# EAGLE library part BGM250 (library Wisp5_Harvester_Motor-driver_V2)
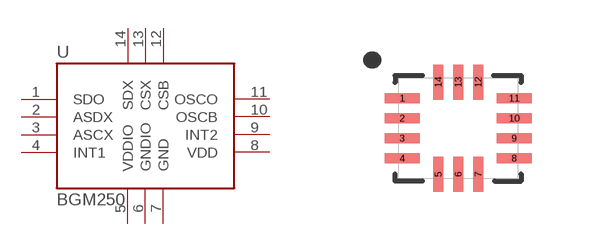
[diagram p2: symbol with the pads of LGA14L; footprint LGA14L]

Designator prefix -

## BGM250  [LGA14L]
1  SDO
2  ASDX
3  ASCX
4  INT1
5  VDDIO
6  GNDIO
7  GND
8  VDD
9  INT2
10  OSCB
11  OSCO
12  CSB
13  CSX
14  SDX

## Footprint LGA14L (pad centres in mm)
smd 0.875 x 0.25: 1 -1.4,0.75; 2 -1.4,0.25; 3 -1.4,-0.25; 4 -1.4,-0.75; 8 1.4,-0.75; 9 1.4,-0.25; 10 1.4,0.25; 11 1.4,0.75
smd 0.25 x 0.875: 5 -0.5,-1.15; 6 0,-1.15; 7 0.5,-1.15; 12 0.5,1.15; 13 0,1.15; 14 -0.5,1.15